# Altium schematic symbol library Capacitors Ceramic SMD 1608.SchLib: 18 symbols
Pins are listed as number, name and electrical type; pins without a type are passive.

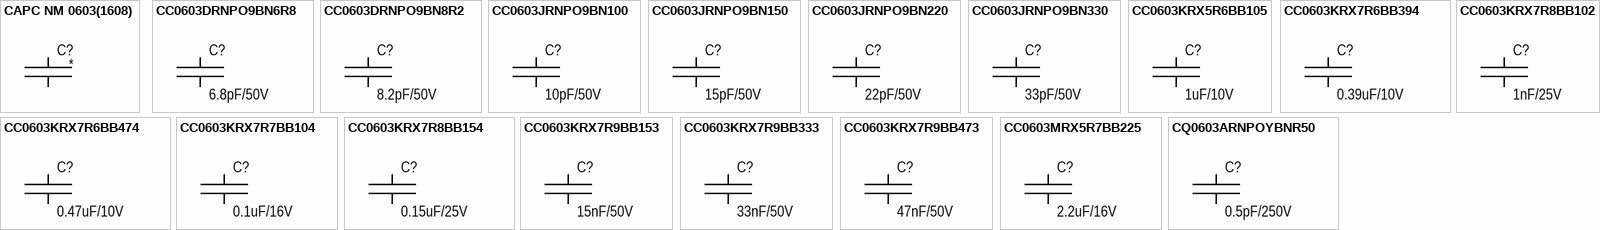
[diagram p0: symbols CAPC NM 0603(1608) to CQ0603ARNPOYBNR50]

## CAPC NM 0603(1608)
designator C?, comment /  (value not drawn)  (no BOM)
CAPC NM 0603(1608); Group: Discrete; Type: Ceramic; Component: Capacitor Ceramic; Package: 0603 (1608); Mounting type: Surface mount (Not mounted); Height: 0.90mm; Dimension: 1.60mm x 0.80mm
footprint CAPC1608N_NM (Chip Capacitor, Body 1.6x0.8mm, IPC High Density)
footprint CAPC1608M_NM (Chip Capacitor, Body 1.6x0.8mm, IPC High Density)
footprint CAPC1608L_NM (Chip Capacitor, Body 1.6x0.8mm, IPC High Density)
pins: 1, 2

## CC0603DRNPO9BN6R8
designator C?, comment 6.8pF/50V
CAPC 6.8pF 50V 0603(1608); Manufacturer: Yageo; Part name: CC0603DRNPO9BN6R8; Group: Discrete; Temperature coefficient: NP0, C0G; Tolerance: ±0.5pF; Type: Ceramic; Component: Capacitor Ceramic; Voltage: 50V; Package: 0603 (1608); Capacitance: 6.8pF; Operating temperature: -55°C +125°C; Mounting type: Surface mount; Height: 0.90mm; Dimension: 1.60mm x 0.80mm
footprint CAPC1608N (Chip Capacitor, Body 1.6x0.8mm, IPC High Density)
footprint CAPC1608M (Chip Capacitor, Body 1.6x0.8mm, IPC High Density)
footprint CAPC1608L (Chip Capacitor, Body 1.6x0.8mm, IPC High Density)
pins: 1, 2

## CC0603DRNPO9BN8R2
designator C?, comment 8.2pF/50V
CAPC 8.2pF 50V 0603(1608); Manufacturer: Yageo; Part name: CC0603DRNPO9BN8R2; Group: Discrete; Temperature coefficient: NP0, C0G; Tolerance: ±0.5pF; Type: Ceramic; Component: Capacitor Ceramic; Voltage: 50V; Package: 0603 (1608); Capacitance: 8.2pF; Operating temperature: -55°C +125°C; Mounting type: Surface mount; Height: 0.90mm; Dimension: 1.60mm x 0.80mm
footprint CAPC1608N (Chip Capacitor, Body 1.6x0.8mm, IPC High Density)
footprint CAPC1608M (Chip Capacitor, Body 1.6x0.8mm, IPC High Density)
footprint CAPC1608L (Chip Capacitor, Body 1.6x0.8mm, IPC High Density)
pins: 1, 2

## CC0603JRNPO9BN100
designator C?, comment 10pF/50V
CAPC 10pF 50V 0603(1608); Manufacturer: Yageo; Part name: CC0603JRNPO9BN100; Group: Discrete; Temperature coefficient: NP0, C0G; Tolerance: ±5%; Type: Ceramic; Component: Capacitor Ceramic; Voltage: 50V; Package: 0603 (1608); Capacitance: 10pF; Operating temperature: -55°C +125°C; Mounting type: Surface mount; Height: 0.90mm; Dimension: 1.60mm x 0.80mm
footprint CAPC1608N (Chip Capacitor, Body 1.6x0.8mm, IPC High Density)
footprint CAPC1608M (Chip Capacitor, Body 1.6x0.8mm, IPC High Density)
footprint CAPC1608L (Chip Capacitor, Body 1.6x0.8mm, IPC High Density)
pins: 1, 2

## CC0603JRNPO9BN150
designator C?, comment 15pF/50V
CAPC 15pF 50V 0603(1608); Manufacturer: Yageo; Part name: CC0603JRNPO9BN150; Group: Discrete; Temperature coefficient: NP0, C0G; Tolerance: ±5%; Type: Ceramic; Component: Capacitor Ceramic; Voltage: 50V; Package: 0603 (1608); Capacitance: 15pF; Operating temperature: -55°C +125°C; Mounting type: Surface mount; Height: 0.90mm; Dimension: 1.60mm x 0.80mm
footprint CAPC1608N (Chip Capacitor, Body 1.6x0.8mm, IPC High Density)
footprint CAPC1608M (Chip Capacitor, Body 1.6x0.8mm, IPC High Density)
footprint CAPC1608L (Chip Capacitor, Body 1.6x0.8mm, IPC High Density)
pins: 1, 2

## CC0603JRNPO9BN220
designator C?, comment 22pF/50V
CAPC 22pF 50V 0603(1608); Manufacturer: Yageo; Part name: CC0603JRNPO9BN220; Group: Discrete; Temperature coefficient: NP0, C0G; Tolerance: ±5%; Type: Ceramic; Component: Capacitor Ceramic; Voltage: 50V; Package: 0603 (1608); Capacitance: 22pF; Operating temperature: -55°C +125°C; Mounting type: Surface mount; Height: 0.90mm; Dimension: 1.60mm x 0.80mm
footprint CAPC1608N (Chip Capacitor, Body 1.6x0.8mm, IPC High Density)
footprint CAPC1608M (Chip Capacitor, Body 1.6x0.8mm, IPC High Density)
footprint CAPC1608L (Chip Capacitor, Body 1.6x0.8mm, IPC High Density)
pins: 1, 2

## CC0603JRNPO9BN330
designator C?, comment 33pF/50V
CAPC 33pF 50V 0603(1608); Manufacturer: Yageo; Part name: CC0603JRNPO9BN330; Group: Discrete; Temperature coefficient: NP0, C0G; Tolerance: ±5%; Type: Ceramic; Component: Capacitor Ceramic; Voltage: 50V; Package: 0603 (1608); Capacitance: 33pF; Operating temperature: -55°C +125°C; Mounting type: Surface mount; Height: 0.90mm; Dimension: 1.60mm x 0.80mm
footprint CAPC1608N (Chip Capacitor, Body 1.6x0.8mm, IPC High Density)
footprint CAPC1608M (Chip Capacitor, Body 1.6x0.8mm, IPC High Density)
footprint CAPC1608L (Chip Capacitor, Body 1.6x0.8mm, IPC High Density)
pins: 1, 2

## CC0603KRX5R6BB105
designator C?, comment 1uF/10V
CAPC 1uF 10V 0603(1608); Manufacturer: Yageo; Part name: CC0603KRX5R6BB105; Group: Discrete; Temperature coefficient: X5R; Tolerance: ±10%; Type: Ceramic; Component: Capacitor Ceramic; Voltage: 10V; Package: 0603 (1608); Capacitance: 1uF; Operating temperature: -55°C +85°C; Mounting type: Surface mount; Height: 0.90mm; Dimension: 1.60mm x 0.80mm
footprint CAPC1608N (Chip Capacitor, Body 1.6x0.8mm, IPC High Density)
footprint CAPC1608M (Chip Capacitor, Body 1.6x0.8mm, IPC High Density)
footprint CAPC1608L (Chip Capacitor, Body 1.6x0.8mm, IPC High Density)
pins: 1, 2

## CC0603KRX7R6BB394
designator C?, comment 0.39uF/10V
CAPC 0.39uF 10V 0603(1608); Manufacturer: Yageo; Part name: CC0603KRX7R6BB394; Group: Discrete; Temperature coefficient: X7R; Tolerance: ±10%; Type: Ceramic; Component: Capacitor Ceramic; Voltage: 10V; Package: 0603 (1608); Capacitance: 0.39uF; Operating temperature: -55°C +125°C; Mounting type: Surface mount; Height: 0.90mm; Dimension: 1.60mm x 0.80mm
footprint CAPC1608N (Chip Capacitor, Body 1.6x0.8mm, IPC High Density)
footprint CAPC1608M (Chip Capacitor, Body 1.6x0.8mm, IPC High Density)
footprint CAPC1608L (Chip Capacitor, Body 1.6x0.8mm, IPC High Density)
pins: 1, 2

## CC0603KRX7R6BB474
designator C?, comment 0.47uF/10V
CAPC 0.47uF 10V 0603(1608); Manufacturer: Yageo; Part name: CC0603KRX7R6BB474; Group: Discrete; Temperature coefficient: X7R; Tolerance: ±10%; Type: Ceramic; Component: Capacitor Ceramic; Voltage: 10V; Package: 0603 (1608); Capacitance: 0.47uF; Operating temperature: -55°C +125°C; Mounting type: Surface mount; Height: 0.90mm; Dimension: 1.60mm x 0.80mm
footprint CAPC1608N (Chip Capacitor, Body 1.6x0.8mm, IPC High Density)
footprint CAPC1608M (Chip Capacitor, Body 1.6x0.8mm, IPC High Density)
footprint CAPC1608L (Chip Capacitor, Body 1.6x0.8mm, IPC High Density)
pins: 1, 2

## CC0603KRX7R7BB104
designator C?, comment 0.1uF/16V
CAPC 0.1uF 16V 0603(1608); Manufacturer: Yageo; Part name: CC0603KRX7R7BB104; Group: Discrete; Temperature coefficient: X7R; Tolerance: ±10%; Type: Ceramic; Component: Capacitor Ceramic; Voltage: 16V; Package: 0603 (1608); Capacitance: 0.1uF; Operating temperature: -55°C +125°C; Mounting type: Surface mount; Height: 0.90mm; Dimension: 1.60mm x 0.80mm
footprint CAPC1608N (Chip Capacitor, Body 1.6x0.8mm, IPC High Density)
footprint CAPC1608M (Chip Capacitor, Body 1.6x0.8mm, IPC High Density)
footprint CAPC1608L (Chip Capacitor, Body 1.6x0.8mm, IPC High Density)
pins: 1, 2

## CC0603KRX7R8BB102
designator C?, comment 1nF/25V
CAPC 1nF 25V 0603(1608); Manufacturer: Yageo; Part name: CC0603KRX7R8BB102; Group: Discrete; Temperature coefficient: X7R; Tolerance: ±10%; Type: Ceramic; Component: Capacitor Ceramic; Voltage: 25V; Package: 0603 (1608); Capacitance: 1nF; Operating temperature: -55°C +125°C; Mounting type: Surface mount; Height: 0.90mm; Dimension: 1.60mm x 0.80mm
footprint CAPC1608N (Chip Capacitor, Body 1.6x0.8mm, IPC High Density)
footprint CAPC1608M (Chip Capacitor, Body 1.6x0.8mm, IPC High Density)
footprint CAPC1608L (Chip Capacitor, Body 1.6x0.8mm, IPC High Density)
pins: 1, 2

## CC0603KRX7R8BB154
designator C?, comment 0.15uF/25V
CAPC 0.15uF 25V 0603(1608); Manufacturer: Yageo; Part name: CC0603KRX7R8BB154; Group: Discrete; Temperature coefficient: X7R; Tolerance: ±10%; Type: Ceramic; Component: Capacitor Ceramic; Voltage: 25V; Package: 0603 (1608); Capacitance: 0.15uF; Operating temperature: -55°C +125°C; Mounting type: Surface mount; Height: 0.90mm; Dimension: 1.60mm x 0.80mm
footprint CAPC1608N (Chip Capacitor, Body 1.6x0.8mm, IPC High Density)
footprint CAPC1608M (Chip Capacitor, Body 1.6x0.8mm, IPC High Density)
footprint CAPC1608L (Chip Capacitor, Body 1.6x0.8mm, IPC High Density)
pins: 1, 2

## CC0603KRX7R9BB153
designator C?, comment 15nF/50V
CAPC 15nF 50V 0603(1608); Manufacturer: Yageo; Part name: CC0603KRX7R9BB153; Group: Discrete; Temperature coefficient: X7R; Tolerance: ±10%; Type: Ceramic; Component: Capacitor Ceramic; Voltage: 50V; Package: 0603 (1608); Capacitance: 15nF; Operating temperature: -55°C +125°C; Mounting type: Surface mount; Height: 0.90mm; Dimension: 1.60mm x 0.80mm
footprint CAPC1608N (Chip Capacitor, Body 1.6x0.8mm, IPC High Density)
footprint CAPC1608M (Chip Capacitor, Body 1.6x0.8mm, IPC High Density)
footprint CAPC1608L (Chip Capacitor, Body 1.6x0.8mm, IPC High Density)
pins: 1, 2

## CC0603KRX7R9BB333
designator C?, comment 33nF/50V
CAPC 33nF 50V 0603(1608); Manufacturer: Yageo; Part name: CC0603KRX7R9BB333; Group: Discrete; Temperature coefficient: X7R; Tolerance: ±10%; Type: Ceramic; Component: Capacitor Ceramic; Voltage: 50V; Package: 0603 (1608); Capacitance: 33nF; Operating temperature: -55°C +125°C; Mounting type: Surface mount; Height: 0.90mm; Dimension: 1.60mm x 0.80mm
footprint CAPC1608N (Chip Capacitor, Body 1.6x0.8mm, IPC High Density)
footprint CAPC1608M (Chip Capacitor, Body 1.6x0.8mm, IPC High Density)
footprint CAPC1608L (Chip Capacitor, Body 1.6x0.8mm, IPC High Density)
pins: 1, 2

## CC0603KRX7R9BB473
designator C?, comment 47nF/50V
CAPC 47nF 50V 0603(1608); Manufacturer: Yageo; Part name: CC0603KRX7R9BB473; Group: Discrete; Temperature coefficient: X7R; Tolerance: ±10%; Type: Ceramic; Component: Capacitor Ceramic; Voltage: 50V; Package: 0603 (1608); Capacitance: 47nF; Operating temperature: -55°C +125°C; Mounting type: Surface mount; Height: 0.90mm; Dimension: 1.60mm x 0.80mm
footprint CAPC1608N (Chip Capacitor, Body 1.6x0.8mm, IPC High Density)
footprint CAPC1608M (Chip Capacitor, Body 1.6x0.8mm, IPC High Density)
footprint CAPC1608L (Chip Capacitor, Body 1.6x0.8mm, IPC High Density)
pins: 1, 2

## CC0603MRX5R7BB225
designator C?, comment 2.2uF/16V
CAPC 2.2uF 16V 0603(1608); Manufacturer: Yageo; Part name: CC0603MRX5R7BB225; Group: Discrete; Temperature coefficient: X5R; Tolerance: ±20%; Type: Ceramic; Component: Capacitor Ceramic; Voltage: 16V; Package: 0603 (1608); Capacitance: 2.2uF; Operating temperature: -55°C +85°C; Mounting type: Surface mount; Height: 0.90mm; Dimension: 1.60mm x 0.80mm
footprint CAPC1608N (Chip Capacitor, Body 1.6x0.8mm, IPC High Density)
footprint CAPC1608M (Chip Capacitor, Body 1.6x0.8mm, IPC High Density)
footprint CAPC1608L (Chip Capacitor, Body 1.6x0.8mm, IPC High Density)
pins: 1, 2

## CQ0603ARNPOYBNR50
designator C?, comment 0.5pF/250V
CAPC 0.5pF 250V 0603(1608); Manufacturer: Yageo; Part name: CQ0603ARNPOYBNR50; Group: Discrete; Temperature coefficient: NP0, C0G; Tolerance: ±0.05pF; Type: Ceramic; Component: Capacitor Ceramic; Voltage: 250V; Package: 0603 (1608); Capacitance: 0.5pF; Operating temperature: -55°C +125°C; Mounting type: Surface mount; Height: 0.90mm; Dimension: 1.60mm x 0.80mm
footprint CAPC1608N (Chip Capacitor, Body 1.6x0.8mm, IPC High Density)
footprint CAPC1608M (Chip Capacitor, Body 1.6x0.8mm, IPC High Density)
footprint CAPC1608L (Chip Capacitor, Body 1.6x0.8mm, IPC High Density)
pins: 1, 2